# Altium footprint library Antennas.PcbLib: 46 footprints (part 2 of 3)
Each footprint in its own frame and in the unit in brackets; x right, y up, seen from the top. Pads: shape width x height; smd on the part's side, far side on the other; paste and mask are expansions set on the pad; w line width, h text height; cw(c..) or ccw(c..) is an arc to the next point about the centre after c.
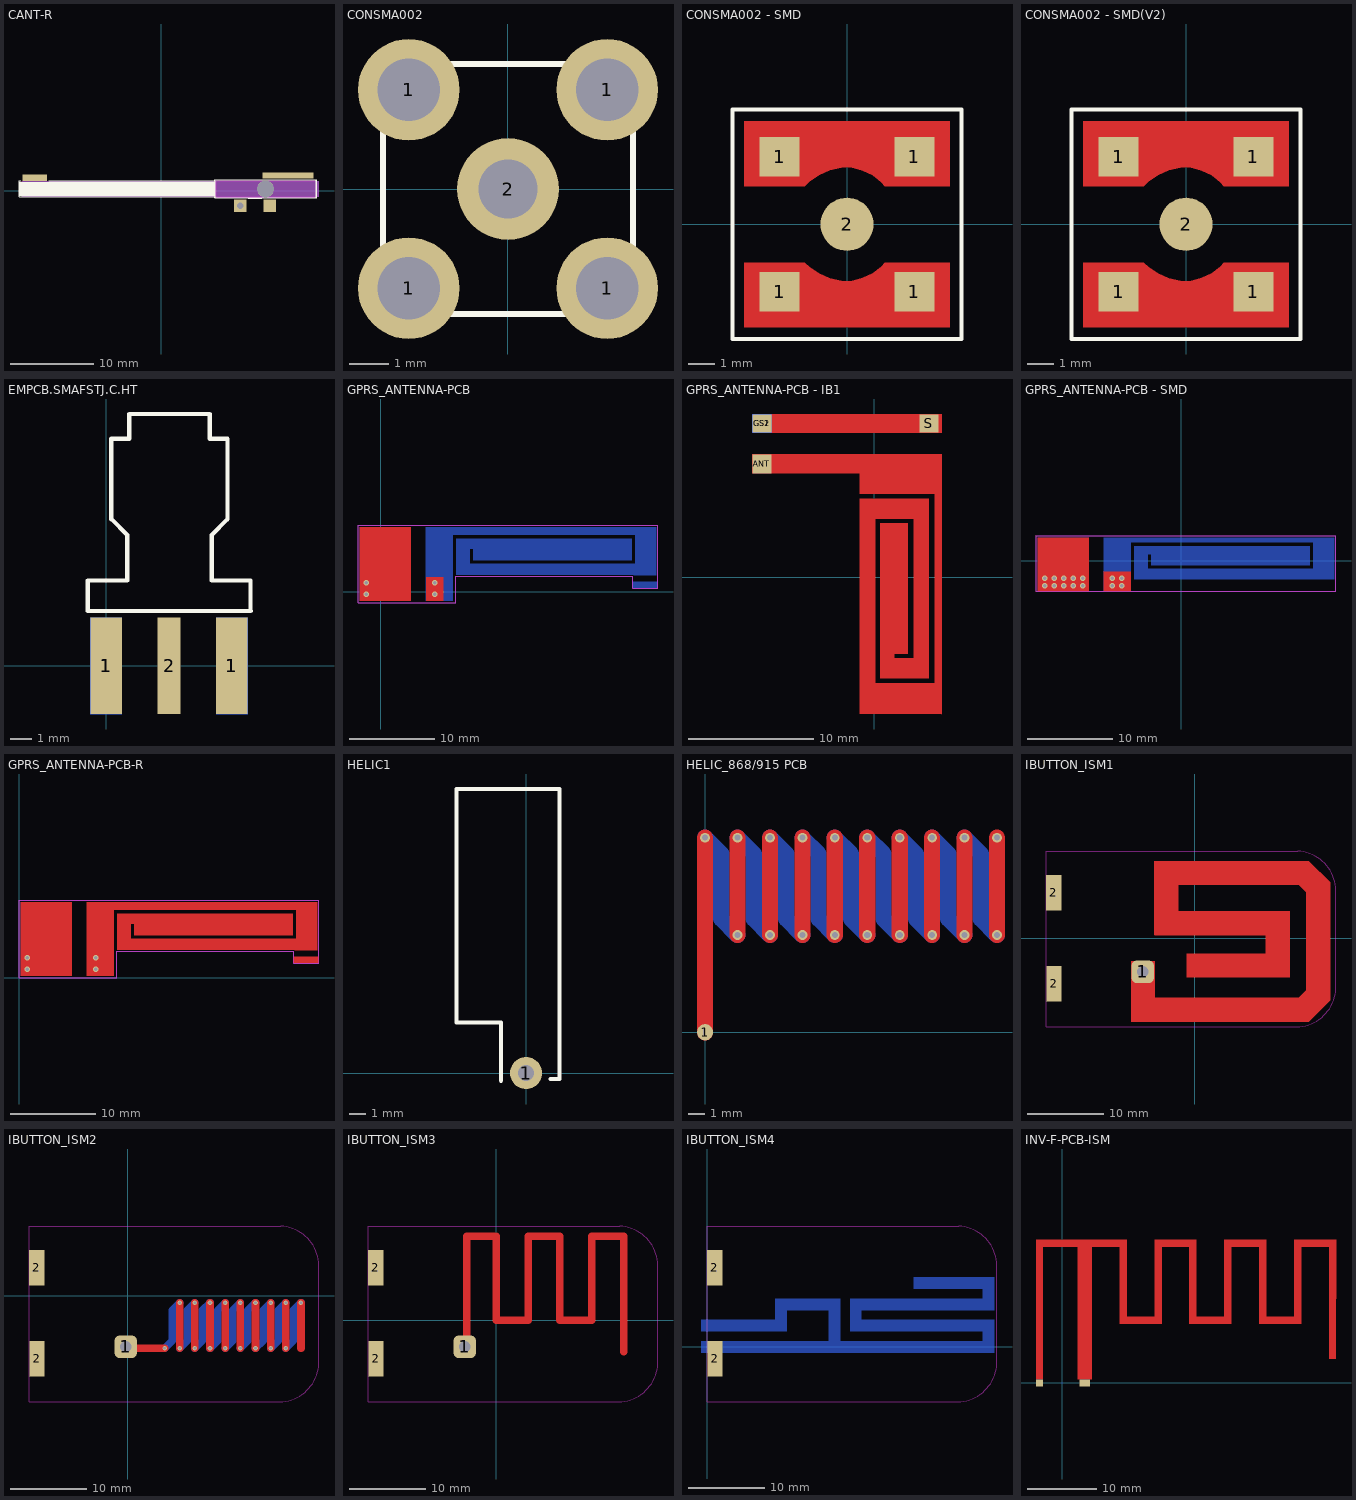
[diagram p1: the footprints below, top view; thin cyan lines are the x and y axes]

## CANT-R [mil]
pads (5):
  rect 0x0 hole 80 square unplated: 0(492.5,7.5)
  rect 60x60 hole 31.5: ANT(372.5,-71.5)
  rect 60x60 smd: GS1(512.5,-71.5)
  rect 240x27.56 smd: GS2(597.5,71.5)
  rect 115x30 smd: S(-597.5,60.5)
Top Overlay:
  region: 252.5,40.5 -672.5,40.5 -672.5,-24.5 252.5,-24.5
  lines w5: -664.5,45.5 -672.5,45.5 -672.5,-29.5 252.5,-29.5 252.5,-34.5 332.5,-34.5 ; -532.5,45.5 252.5,45.5 252.5,50.5 472.5,50.5 ; 410.5,-35.5 474.5,-35.5 ; 550.5,-34.5 732.5,-34.5 732.5,50.5 722.5,50.5 ; 253.5,-34.5 551.5,-34.5 733.5,-34.5 733.5,50.5 473.5,50.5 253.5,50.5 253.5,-29.5 253.5,-34.5
Keep-Out Layer:
  lines w6: 257.5,-30.5 257.5,45.5 732.5,45.5 732.5,-30.5 257.5,-30.5
Mechanical 1:
  lines w0: 258.5,-30.5 258.5,44.5 728.5,44.5 728.5,-30.5 258.5,-30.5
Mechanical 11:
  region: 744.5,45.5 -660.5,45.5 -660.5,-29.5 744.5,-29.5
Mechanical 113:
  region: 731.5,33.5 -668.5,33.5 -668.5,-16.5 731.5,-16.5
3D body: height 19.68, standoff 0, extent 483.5,38.5 717.5,41.5
3D body: height 19.68, standoff 0, extent 343.5,-27 403.5,-24
3D body: height 19.68, standoff 0, extent 483.5,-27 543.5,-24
3D body: height 19.68, standoff 0, extent -654,38.5 -539,43.5
3D body: height 3.94, standoff 0, extent 483.5,-60.5 543.5,-27
3D body: height 3.94, standoff 0, extent 343.5,-67.25 403.5,-27
3D body: height 3.94, standoff 0, extent 483.5,41.5 717.5,64.5
3D body: height 3.94, standoff 0, extent -654,43.5 -539,64.5
3D body "ant-r.step": height 291.58, standoff -62.48, extent -655.04,-25.89 723,37.89

## CONSMA002 [mm] "CONN SMA JACK STR 50 OHM PCB"
pads (5):
  round 2.6 hole 1.6: 1(-2.54,-2.54) 1(-2.54,2.54) 1(2.54,-2.54) 1(2.54,2.54)
  round 2.6 hole 1.5: 2(0,0)
Top Overlay:
  lines w0.15: -3.2,-3.2 3.2,-3.2 3.2,3.2 -3.2,3.2 -3.2,-3.2
3D body "User Library-CONSMA002.STEP": height 10, standoff -3.9, extent -3.5,-3.5 11.652,3.5

## CONSMA002 - SMD [mm] "CONN SMA JACK STR 50 OHM PCB"
pads (5):
  rect 1.5x1.5 smd: 1(-2.54,-2.54) 1(-2.54,2.54) 1(2.54,-2.54) 1(2.54,2.54)
  round 2 smd: 2(0,0)
Top Layer:
  region: 3.875,-3.88 -3.875,-3.88 -3.875,-1.44 -1.584,-1.44 -1.423,-1.592 -1.06,-1.847 -0.654,-2.026 -0.221,-2.123 0,-2.14 0.203,-2.122 0.599,-2.022 0.965,-1.842 1.286,-1.59 1.425,-1.44 3.875,-1.44
  region: 3.875,3.88 -3.875,3.88 -3.875,1.44 -1.584,1.44 -1.423,1.592 -1.06,1.847 -0.654,2.026 -0.221,2.123 0,2.14 0.203,2.122 0.599,2.022 0.965,1.842 1.286,1.59 1.425,1.44 3.875,1.44
  region: 2.325,6.975
Top Overlay:
  lines w0.15: -4.318,-4.318 -4.318,4.318 4.318,4.318 4.318,-4.318 -4.318,-4.318
3D body "consma002-smd.stp": height 10.81, standoff 0.01, extent -3.5,-3.5 11.652,3.5

## CONSMA002 - SMD(V2) [mm] "CONN SMA JACK STR 50 OHM PCB"
pads (5):
  rect 1.5x1.5 smd: 1(-2.54,-2.54) 1(-2.54,2.54) 1(2.54,-2.54) 1(2.54,2.54)
  round 2 smd: 2(0,0)
Top Layer:
  region: 2.325,6.975
  region: 3.875,3.88 -3.875,3.88 -3.875,1.44 -1.584,1.44 -1.423,1.592 -1.06,1.847 -0.654,2.026 -0.221,2.123 0,2.14 0.203,2.122 0.599,2.022 0.965,1.842 1.286,1.59 1.425,1.44 3.875,1.44
  region: 3.875,-3.88 -3.875,-3.88 -3.875,-1.44 -1.584,-1.44 -1.423,-1.592 -1.06,-1.847 -0.654,-2.026 -0.221,-2.123 0,-2.14 0.203,-2.122 0.599,-2.022 0.965,-1.842 1.286,-1.59 1.425,-1.44 3.875,-1.44
Top Overlay:
  lines w0.15: -4.318,-4.318 4.318,-4.318 4.318,4.318 -4.318,4.318 -4.318,-4.318
3D body "consma002-smd.stp": height 10.81, standoff 0.01, extent -3.5,-3.5 3.5,11.652

## EMPCB.SMAFSTJ.C.HT [mm]
pads (5):
  rect 1.5x4.56 smd: 1(0,0) 1(5.95,0)
  rect 1.5x4.56 smd far side: 1(0,0) 1(5.95,0)
  rect 1.1x4.56 smd: 2(2.975,0)
Top Overlay:
  lines w0.203: -0.864,2.589 -0.864,4.039 0.997,4.039 0.997,6.189 0.247,6.939 0.247,10.739 1.097,10.739 1.097,11.914 4.897,11.914 4.897,10.739 5.747,10.739 5.747,6.939 4.997,6.189 4.997,4.039 6.833,4.039 6.833,2.589 ; -0.853,2.589 6.847,2.589
3D body "conector sma.stp": height 3.56, standoff -2.78, extent -0.173,-1.431 6.167,11.899

## GPRS_ANTENNA-PCB [mm]
via 6.299,1.067 diameter 0.64 hole 0.4
via 6.299,-0.254 diameter 0.64 hole 0.4
via -1.676,1.041 diameter 0.64 hole 0.4
via -1.676,-0.279 diameter 0.64 hole 0.4
Top Layer:
  region: 7.289,-1.041 5.309,-1.041 5.309,1.701 7.289,1.701
  region: 3.504,-1.041 -2.438,-1.041 -2.438,7.543 3.504,7.543
Bottom Layer:
  rectangle: 29.413,0.432 32.334,1.194
  region: 32.156,1.957 29.544,1.957 29.491,1.992 29.413,2.007 8.815,2.007 8.815,6.197 29.285,6.197 29.285,3.709 10.796,3.709 10.796,5.005 10.413,5.005 10.413,3.301 29.693,3.301 29.693,6.656 8.407,6.656 8.407,-1.041 5.259,-1.041 5.259,7.543 32.156,7.543
  region: 3.504,-1.041 -2.438,-1.041 -2.438,7.543 3.504,7.543
Top Solder:
  region: 5.334,1.676 5.334,-1.041 7.264,-1.041 7.264,1.676
  region: 1.422,1.702 1.422,-1.016 3.353,-1.016 3.353,1.702
Bottom Solder:
  region: 3.353,1.88 -2.362,1.88 -2.362,-1.041 3.353,-1.041
  rectangle: 29.413,0.432 32.334,1.194
Keep-Out Layer:
  lines w0: 30.683,0.432 32.36,0.432 32.36,7.747 -2.642,7.747 -2.642,-1.245 8.788,-1.245 8.788,1.803 29.413,1.803 29.413,0.432 32.334,0.432
Mechanical 1:
  lines w0: 30.683,0.432 32.36,0.432 32.36,7.747 -2.642,7.747 -2.642,-1.245 8.788,-1.245 8.788,1.803 29.413,1.803 29.413,0.432 32.334,0.432

## GPRS_ANTENNA-PCB - IB1 [mil]
pads (4):
  rect 60x60 smd mask+4: ANT(-353.96,358.57)
  rect 60x56.97 smd mask+4: GS1(-353.96,486.09) S(173.04,486.09)
  rect 60x56.97 smd far side mask+4: GS2(-353.96,486.09)
Top Layer:
  region: -383.96,457.6 -383.96,514.57 213.01,514.57 213.01,457.6
  region: -44.96,-431.43 -44.96,248.54 173.04,248.54 173.04,-318.43 19.04,-318.43 19.04,170.54 107.04,170.54 107.04,-240.4 64.54,-240.4 64.54,-255.46 125.04,-255.46 125.04,185.6 3.04,185.6 3.04,-334.49 191.04,-334.49 191.04,264.6 -44.96,264.6 -44.96,329.06 -383.96,329.06 -383.96,388.54 213.01,388.54 213.01,-431.43

## GPRS_ANTENNA-PCB - SMD [mm]
via -15.9,-2.921 diameter 0.64 hole 0.4
via -14.795,-2.921 diameter 0.64 hole 0.4
via -13.691,-2.921 diameter 0.64 hole 0.4
via -12.586,-2.921 diameter 0.64 hole 0.4
via -11.481,-2.921 diameter 0.64 hole 0.4
via -11.481,-2.032 diameter 0.64 hole 0.4
via -12.586,-2.032 diameter 0.64 hole 0.4
via -13.691,-2.032 diameter 0.64 hole 0.4
via -14.795,-2.032 diameter 0.64 hole 0.4
via -15.9,-2.032 diameter 0.64 hole 0.4
via -8.026,-2.032 diameter 0.64 hole 0.4
via -6.921,-2.032 diameter 0.64 hole 0.4
via -6.921,-2.921 diameter 0.64 hole 0.4
via -8.026,-2.921 diameter 0.64 hole 0.4
Top Layer:
  region: -5.893,-1.27 -5.893,-3.531 -9.042,-3.531 -9.042,-1.27
  region: -10.796,-3.531 -16.738,-3.531 -16.738,2.717 -10.796,2.717
Bottom Layer:
  region: 17.855,-2.159 -5.486,-2.159 -5.486,1.702 14.985,1.702 14.985,-0.533 -3.504,-0.533 -3.504,0.762 -3.887,0.762 -3.887,-0.94 15.393,-0.94 15.393,2.159 -5.894,2.159 -5.894,-3.531 -9.042,-3.531 -9.042,2.717 17.855,2.717
  region: -10.796,-3.531 -16.738,-3.531 -16.738,2.717 -10.796,2.717
Top Solder:
  rectangle: -9.042,-3.531 -5.893,-1.27
  region: -13.284,-1.27 -13.284,-3.531 -10.795,-3.531 -10.795,-1.27
Bottom Solder:
  region: -10.795,-1.27 -16.738,-1.27 -16.738,-3.531 -10.795,-3.531
Keep-Out Layer:
  lines w0.01: -16.942,-3.531 -16.942,2.921 18.059,2.921 18.059,-3.531 -16.942,-3.531
Mechanical 1:
  lines w0.01: -16.942,-3.531 18.059,-3.531 18.059,2.921 -16.942,2.921 -16.942,-3.531

## GPRS_ANTENNA-PCB-R [mm]
via 8.941,2.311 diameter 0.64 hole 0.4
via 8.941,0.991 diameter 0.64 hole 0.4
via 0.965,2.286 diameter 0.64 hole 0.4
via 0.965,0.965 diameter 0.64 hole 0.4
Top Layer:
  rectangle: 32.055,1.676 34.976,2.438
  region: 34.797,3.201 32.186,3.201 32.133,3.236 32.055,3.252 11.456,3.252 11.456,7.441 31.927,7.441 31.927,4.954 13.437,4.954 13.437,6.249 13.055,6.249 13.055,4.546 32.335,4.546 32.335,7.9 11.048,7.9 11.048,0.204 7.9,0.204 7.9,8.788 34.797,8.788
  region: 6.146,0.204 0.204,0.204 0.204,8.788 6.146,8.788
Bottom Layer:
  region: 9.931,0.204 7.951,0.204 7.951,2.946 9.931,2.946
  region: 6.146,0.204 0.204,0.204 0.204,8.788 6.146,8.788
Top Solder:
  region: 5.994,3.124 0.279,3.124 0.279,0.203 5.994,0.203
  rectangle: 32.055,1.676 34.976,2.438
  region: 4.064,2.946 4.064,0.229 5.994,0.229 5.994,2.946
Bottom Solder:
  region: 4.216,2.922 4.216,0.204 6.146,0.204 6.146,2.922
  region: 7.976,2.921 7.976,0.203 9.906,0.203 9.906,2.921
Keep-Out Layer:
  lines w0: 33.325,1.676 35.001,1.676 35.001,8.992 0,8.992 0,0 11.43,0 11.43,3.048 32.055,3.048 32.055,1.676 34.976,1.676
Mechanical 1:
  lines w0: 33.325,1.676 35.001,1.676 35.001,8.992 0,8.992 0,0 11.43,0 11.43,3.048 32.055,3.048 32.055,1.676 34.976,1.676

## HELIC1 [mm]
pads (1):
  round 2 hole 1: 1(0,0)
Top Overlay:
  lines w0.254: -1.575,-0.483 -1.575,3.175 -4.343,3.175 -4.343,17.78 2.032,17.78 2.083,17.78 2.083,-0.381 1.524,-0.381
3D body "User Library-SW868-TH13.step": height 6.45, standoff -1.95, extent -4.166,-0.483 2.134,17.817

## HELIC_868/915 PCB [mm]
pads (1):
  round 1 smd: 1(0,0)
via 16,6 diameter 0.6 hole 0.38
via 18,6 diameter 0.6 hole 0.38
via 18,12 diameter 0.6 hole 0.38
via 16,12 diameter 0.6 hole 0.38
via 14,12 diameter 0.6 hole 0.38
via 12,6 diameter 0.6 hole 0.38
via 14,6 diameter 0.6 hole 0.38
via 12,12 diameter 0.6 hole 0.38
via 10,12 diameter 0.6 hole 0.38
via 10,6 diameter 0.6 hole 0.38
via 8,6 diameter 0.6 hole 0.38
via 8,12 diameter 0.6 hole 0.38
via 6,12 diameter 0.6 hole 0.38
via 6,6 diameter 0.6 hole 0.38
via 4,12 diameter 0.6 hole 0.38
via 4,6 diameter 0.6 hole 0.38
via 2,6 diameter 0.6 hole 0.38
via 2,12 diameter 0.6 hole 0.38
via 0,12 diameter 0.6 hole 0.38
Top Layer:
  lines w1: 0,0 0,12 ; 2,6 2,12 ; 4,6 4,12 ; 6,6 6,12 ; 8,6 8,12 ; 10,6 10,12 ; 12,6 12,12 ; 14,6 14,12 ; 16,6 16,12 ; 18,6 18,12
Bottom Layer:
  lines w1: 0,12 1,11 1,7 2,6 ; 4,6 3,7 3,11 2,12 ; 6,6 5,7 5,11 4,12 ; 6,12 7,11 7,7 8,6 ; 10,6 9,7 9,11 8,12 ; 10,12 11,11 11,7 12,6 ; 14,6 13,7 13,11 12,12 ; 14,12 15,11 15,7 16,6 ; 18,6 17,7 17,11 16,12 ; 2,12 2,12 ; 4,12 4,12 ; 8,12 8,12 ; 12,12 12,12 ; 16,12 16,12

## IBUTTON_ISM1 [mm]
pads (3):
  rrect50% 3x3 hole 1.5: 1(-6.872,-4.437)
  rect 2x4.7 smd: 2(-18.611,5.991) 2(-18.57,-5.991)
Top Layer:
  region: -5.365,10.117 -5.365,10.127 -5.357,10.145 -5.343,10.159 -5.325,10.167 -5.315,10.167 15.005,10.167 15.01,10.167 15.02,10.165 15.029,10.161 15.038,10.156 15.041,10.152 17.835,7.358 17.838,7.355 17.844,7.347 17.848,7.337 17.85,7.328 17.85,7.323 17.85,-8.171 17.85,-8.176 17.848,-8.186 17.844,-8.195 17.838,-8.204 17.835,-8.207 15.041,-11.001 15.037,-11.004 15.029,-11.01 15.02,-11.014 15.01,-11.016 15.005,-11.016 -8.363,-11.016 -8.373,-11.016 -8.391,-11.008 -8.405,-10.994 -8.413,-10.975 -8.413,-10.965 -8.413,-3.041 -5.316,-3.041 -5.316,-7.867 13.714,-7.867 14.701,-6.88 14.701,6.032 13.714,7.018 -2.216,7.018 -2.216,3.563 12.465,3.563 12.475,3.563 12.494,3.555 12.508,3.541 12.516,3.523 12.516,3.513 12.516,-5.123 12.516,-5.133 12.508,-5.152 12.494,-5.166 12.475,-5.174 12.465,-5.174 -0.997,-5.174 -1.007,-5.174 -1.025,-5.166 -1.039,-5.152 -1.047,-5.133 -1.047,-5.123 -1.047,-2.075 -1.047,-2.065 -1.039,-2.047 -1.025,-2.033 -1.007,-2.025 -0.997,-2.025 9.367,-2.025 9.367,0.414 -5.315,0.414 -5.325,0.414 -5.343,0.422 -5.357,0.436 -5.365,0.455 -5.365,0.465
Top Solder:
  region: -5.365,10.066 -5.365,10.076 -5.357,10.095 -5.343,10.109 -5.325,10.117 -5.315,10.117 15.005,10.117 15.01,10.117 15.02,10.115 15.029,10.111 15.038,10.105 15.041,10.102 17.835,7.308 17.838,7.304 17.844,7.296 17.848,7.287 17.85,7.277 17.85,7.272 17.85,-8.222 17.85,-8.227 17.848,-8.237 17.844,-8.246 17.838,-8.254 17.835,-8.258 15.041,-11.051 15.037,-11.055 15.029,-11.06 15.02,-11.064 15.01,-11.066 15.005,-11.066 -8.363,-11.066 -8.373,-11.066 -8.391,-11.058 -8.405,-11.044 -8.413,-11.026 -8.413,-11.016 -8.413,-3.091 -5.316,-3.091 -5.316,-7.917 13.714,-7.917 14.701,-6.931 14.701,5.981 13.714,6.968 -2.216,6.968 -2.216,3.513 12.465,3.513 12.475,3.513 12.494,3.505 12.508,3.491 12.516,3.472 12.516,3.462 12.516,-5.174 12.516,-5.184 12.508,-5.202 12.494,-5.216 12.475,-5.224 12.465,-5.224 -0.997,-5.224 -1.007,-5.224 -1.025,-5.216 -1.039,-5.202 -1.047,-5.184 -1.047,-5.174 -1.047,-2.126 -1.047,-2.116 -1.039,-2.097 -1.025,-2.083 -1.007,-2.075 -0.997,-2.075 9.367,-2.075 9.367,0.364 -5.315,0.364 -5.325,0.364 -5.343,0.372 -5.357,0.386 -5.365,0.404 -5.365,0.414
Keep-Out Layer:
  lines w0.16: 18.607,5.902 ccw(c13.306,6.176) 13.579,11.477 -18.498,11.477 -19.622,11.477 -19.622,-11.695 13.036,-11.695 ccw(c13.309,-6.394) 18.611,-6.667 18.611,5.902
3D body: height 7.6, standoff 0, extent -8.872,7.627 -8.872,7.627

## IBUTTON_ISM2 [mm]
pads (3):
  rrect50% 3x3 hole 1.5: 1(-0.285,-6.731)
  rect 2x4.7 smd: 2(-12.024,3.698) 2(-11.983,-8.284)
via 4.826,-6.92 diameter 0.6 hole 0.38
via 6.826,-6.92 diameter 0.6 hole 0.38
via 6.826,-0.92 diameter 0.6 hole 0.38
via 8.826,-0.92 diameter 0.6 hole 0.38
via 8.826,-6.92 diameter 0.6 hole 0.38
via 10.826,-0.92 diameter 0.6 hole 0.38
via 10.826,-6.92 diameter 0.6 hole 0.38
via 12.826,-6.92 diameter 0.6 hole 0.38
via 12.826,-0.92 diameter 0.6 hole 0.38
via 14.826,-0.92 diameter 0.6 hole 0.38
via 14.826,-6.92 diameter 0.6 hole 0.38
via 16.826,-6.92 diameter 0.6 hole 0.38
via 18.826,-0.92 diameter 0.6 hole 0.38
via 16.826,-0.92 diameter 0.6 hole 0.38
via 18.826,-6.92 diameter 0.6 hole 0.38
via 20.826,-6.92 diameter 0.6 hole 0.38
via 22.826,-0.92 diameter 0.6 hole 0.38
via 20.826,-0.92 diameter 0.6 hole 0.38
Top Layer:
  lines w1: -0.285,-6.92 4.826,-6.92 ; 6.826,-6.92 6.826,-0.92 ; 8.826,-6.92 8.826,-0.92 ; 10.826,-6.92 10.826,-0.92 ; 12.826,-6.92 12.826,-0.92 ; 14.826,-6.92 14.826,-0.92 ; 16.826,-6.92 16.826,-0.92 ; 18.826,-6.92 18.826,-0.92 ; 20.826,-6.92 20.826,-0.92 ; 22.826,-6.92 22.826,-0.92
Bottom Layer:
  lines w1: 4.826,-6.92 5.826,-5.92 5.826,-1.92 6.826,-0.92 ; 8.826,-0.92 7.826,-1.92 7.826,-5.92 6.826,-6.92 ; 10.826,-6.92 11.826,-5.92 11.826,-1.92 12.826,-0.92 ; 10.826,-0.92 9.826,-1.92 9.826,-5.92 8.826,-6.92 ; 14.826,-6.92 15.826,-5.92 15.826,-1.92 16.826,-0.92 ; 14.826,-0.92 13.826,-1.92 13.826,-5.92 12.826,-6.92 ; 18.826,-6.92 19.826,-5.92 19.826,-1.92 20.826,-0.92 ; 18.826,-0.92 17.826,-1.92 17.826,-5.92 16.826,-6.92 ; 22.826,-0.92 21.826,-1.92 21.826,-5.92 20.826,-6.92 ; 6.826,-6.92 6.826,-6.92 ; 8.826,-6.92 8.826,-6.92 ; 12.826,-6.92 12.826,-6.92 ; 16.826,-6.92 16.826,-6.92 ; 20.826,-6.92 20.826,-6.92
Keep-Out Layer:
  lines w0.16: 25.194,3.609 ccw(c19.892,3.883) 20.166,9.184 -11.911,9.184 -13.035,9.184 -13.035,-13.988 19.623,-13.988 ccw(c19.896,-8.687) 25.197,-8.96 25.197,3.609
3D body: height 7.6, standoff 0, extent -2.286,5.334 -2.286,5.334

## IBUTTON_ISM3 [mm]
pads (3):
  rrect50% 3x3 hole 1.5: 1(-4.146,-3.53)
  rect 2x4.7 smd: 2(-15.885,6.899) 2(-15.844,-5.084)
Top Layer:
  lines w1: -4.369,-3.658 -3.861,-3.658 -3.861,11.074 0,11.074 0,0 4.2,0 4.2,11.074 8.4,11.074 8.4,0 12.6,0 12.6,11.074 16.8,11.074 16.8,-4.2 ; -4.146,-3.53 -3.861,-3.53
Top Solder:
  lines w1: -3.861,-3.53 -3.861,11.074 0,11.074 0,0 4.2,0 4.2,11.074 8.4,11.074 8.4,0 12.6,0 12.6,11.074 16.8,11.074 16.8,-4.2
Keep-Out Layer:
  lines w0.16: 21.333,6.81 ccw(c16.032,7.083) 16.305,12.384 -15.772,12.384 -16.896,12.384 -16.896,-10.788 15.762,-10.788 ccw(c16.035,-5.487) 21.336,-5.76 21.336,6.81
3D body: height 7.6, standoff 0, extent -6.147,8.534 -6.147,8.534

## IBUTTON_ISM4 [mm]
pads (2):
  rect 2x4.7 smd: 2(1.011,10.429) 2(1.052,-1.554)
Bottom Layer:
  region: -0.762,-0.762 -0.762,0.737 16.053,0.737 16.053,4.851 10.49,4.851 10.49,2.057 -0.762,2.057 -0.762,3.556 8.992,3.556 8.992,6.35 17.551,6.35 17.551,0.762 36.347,0.762 36.347,2.057 18.847,2.057 18.847,6.35 36.347,6.35 36.347,7.645 27.254,7.645 27.254,9.144 37.846,9.144 37.846,4.851 20.345,4.851 20.345,3.556 37.846,3.556 37.846,-0.762 -0.559,-0.762
  lines w1.5: 0,0 8.25,0 37.104,0 37.104,2.8 19.6,2.8 19.6,5.6 37.104,5.6 37.104,8.4 28,8.4 ; 0,2.8 9.75,2.8 9.75,5.6 11.65,5.6 16.8,5.6 16.8,0
Bottom Solder:
  rectangle: 0,-1.5 2.25,4.5
Keep-Out Layer:
  lines w0.16: 38.229,10.34 ccw(c32.928,10.613) 33.201,15.914 1.124,15.914 0,15.914 0,-7.258 32.658,-7.258 ccw(c32.931,-1.957) 38.232,-2.23 38.232,10.34

## INV-F-PCB-ISM [mm] "Inverted F Antenna 868/915 MHz"
pads (2):
  rect 1.5x1 smd: 1(3.25,0)
  rect 1x1 smd: 2(-3.25,0)
Top Layer:
  region: 2.25,0.5 2.25,19.5 -2.75,19.5 -2.75,0.5 -3.75,0.5 -3.75,20.5 4.25,20.5 9.25,20.5 9.25,9.5 13.25,9.5 13.25,20.5 14.249,20.5 19.25,20.5 19.25,9.5 23.25,9.5 23.25,20.497 29.25,20.507 29.25,9.5 33.25,9.5 33.251,20.5 39.25,20.5 39.25,3.5 38.251,3.5 38.25,19.5 34.25,19.5 34.25,9.5 34.25,8.5 28.25,8.5 28.25,19.5 24.25,19.5 24.25,8.5 19.25,8.5 18.251,8.5 18.25,19.5 14.25,19.5 14.25,8.5 8.25,8.5 8.25,19.5 4.25,19.5 4.25,0.5